# Altium footprint library Sound Buzzer.PcbLib: 1 footprints
Each footprint in its own frame and in the unit in brackets; x right, y up, seen from the top. Pads: shape width x height; smd on the part's side, far side on the other; paste and mask are expansions set on the pad; w line width, h text height; cw(c..) or ccw(c..) is an arc to the next point about the centre after c.
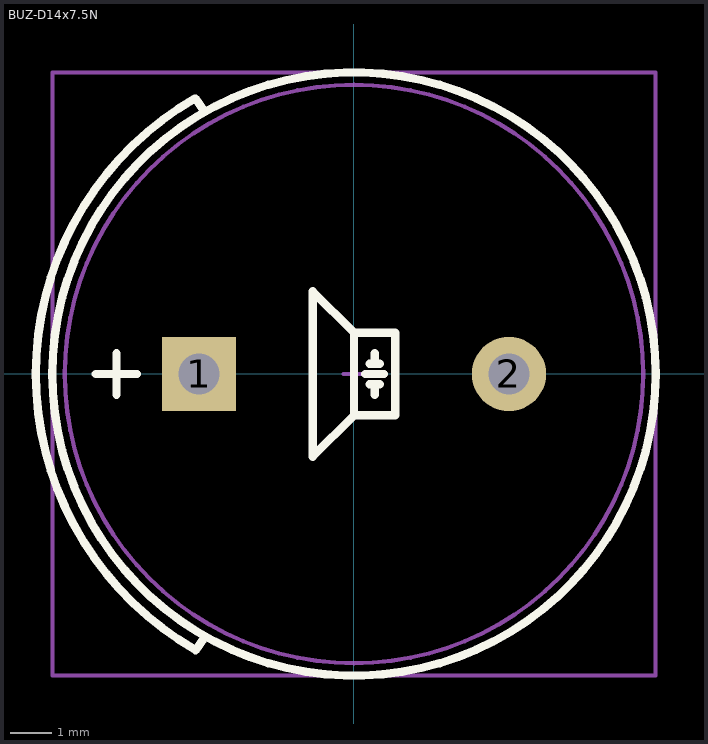
[diagram p0: the footprint, top view; thin cyan lines are the x and y axes]

## BUZ-D14x7.5N [mm] "Buzzer, Body d14x7.5mm"
height 9.5
pads (2):
  rect 1.8x1.8 hole 1: 1(-3.75,0)
  round 1.8 hole 1: 2(3.75,0)
Top Overlay:
  circle w0.2: c0,0 r7.3
  lines w0.2: -6.25,0 -5.25,0 ; -5.75,-0.5 -5.75,0.5 ; -3.85,-6.668 cw(c0,0) -3.85,6.668 ; -3.833,-6.687 -3.618,-6.38 ; -3.833,6.662 -3.618,6.355 ; 0.275,0 0.725,0 ; 0.375,-0.25 0.625,-0.25 ; 0.375,0.25 0.625,0.25 ; 0.5,-0.5 0.5,-0.25 ; 0.5,0.25 0.5,0.5 ; 0,-1 -1,-2 -1,2 0,1 ; 0,-1 0,1 ; 0,-1 1,-1 1,1 0,1
Top Package:
  circle w0.1: c0,0 r7
  circle w0.1: c3.75,0 r0.4
  circle w0.1: c-3.75,0 r0.4
  lines w0.1: -6.25,0 -5.25,0 ; -5.75,-0.5 -5.75,0.5 ; 0.275,0 0.725,0 ; 0.375,-0.25 0.625,-0.25 ; 0.375,0.25 0.625,0.25 ; 0.5,-0.5 0.5,-0.25 ; 0.5,0.25 0.5,0.5 ; 0,-1 -1,-2 -1,2 0,1 ; 0,-1 0,1 ; 0,-1 1,-1 1,1 0,1
Top Border:
  lines w0.1: -0.25,0 0.25,0 ; 0,-0.25 0,0.25 ; -7.3,-7.3 7.3,-7.3 7.3,7.3 -7.3,7.3 -7.3,-7.3
3D body "User Library-Buzzer14mm.step": height 7.35, standoff -3.1, extent -7,-7 7,7